# Altium schematic symbol library StandardCapacitors.SchLib: 18 symbols
Pins are listed as number, name and electrical type; pins without a type are passive.

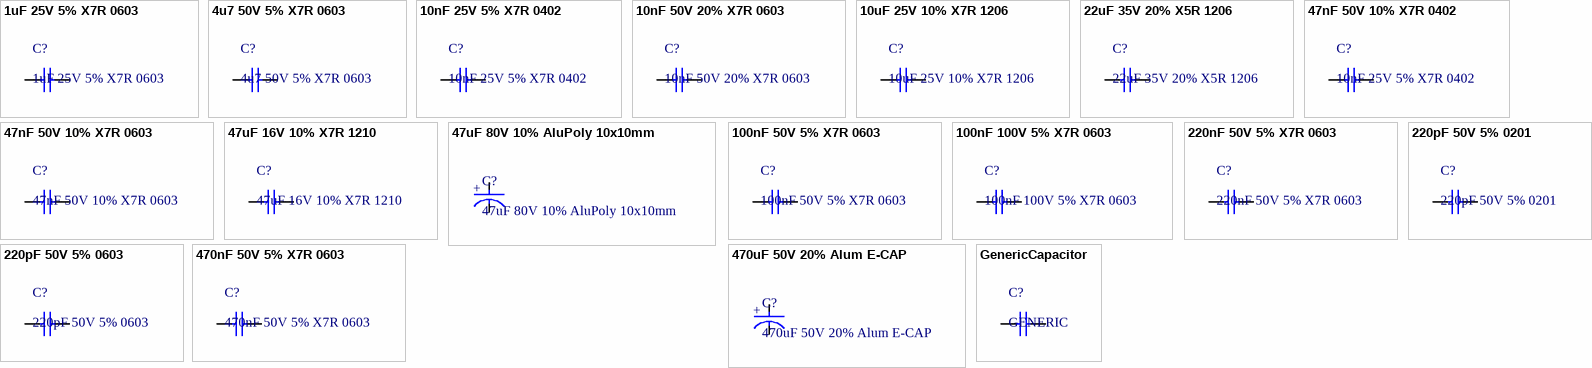
[diagram p0: symbols 1uF 25V 5% X7R 0603 to GenericCapacitor]

## 1uF 25V 5% X7R 0603
designator C?
Capacitor, Ceramic, SMD, 1uF, 25V, 5%, X7R, 0603
footprint Cap_Ceramic_0603
pins: 1, 2

## 4u7 50V 5% X7R 0603
designator C?
Capacitor, Ceramic, SMD, 4u7, 50V, 5%, X7R, 0603
footprint Cap_Ceramic_0603
pins: 1, 2

## 10nF 25V 5% X7R 0402
designator C?
10000pF ±5% 25V Ceramic Capacitor X7R 0402 (1005 Metric) /; ComponentLink1Description: Digikey; ComponentLink1URL: https://www.digikey.com/product-detail/en/murata-electronics/GRM155R71E103JA01J/490-6340-1-ND/3845537; ComponentLink2Description: Datasheet; ComponentLink2URL: https://search.murata.co.jp/Ceramy/image/img/A01X/G101/ENG/GRM155R71E103JA01-01.pdf
footprint CAP_CERAMIC_0402
pins: 1, 2

## 10nF 50V 20% X7R 0603
designator C?
10000pF ±20% 50V Ceramic Capacitor X7R 0603 (1608 Metric); ComponentLink1Description: Digikey; ComponentLink1URL: https://www.digikey.com.au/product-detail/en/kemet/C0603C103M5RACTU/399-7842-1-ND/3471565; ComponentLink2Description: Datasheet; ComponentLink2URL: https://content.kemet.com/datasheets/KEM_C1002_X7R_SMD.pdf
footprint Cap_Ceramic_0603
pins: 1, 2

## 10uF 25V 10% X7R 1206
designator C?
Capacitor, Ceramic, SMD, 10uF, 25V, 10%, X7R, 1206
footprint Cap_Ceramic_1206
pins: 1, 2

## 22uF 35V 20% X5R 1206
designator C?
22µF ±20% 35V Ceramic Capacitor X5R 1206 (3216 Metric); ComponentLink1Description: Digikey; ComponentLink1URL: https://www.digikey.com.au/product-detail/en/tdk-corporation/C3216X5R1V226M160AC/445-8045-1-ND/2792165; ComponentLink2Description: Datasheet; ComponentLink2URL: https://product.tdk.com/info/en/catalog/datasheets/mlcc_commercial_general_en.pdf
footprint Cap_Ceramic_1206
pins: 1, 2

## 47nF 50V 10% X7R 0402
designator C?, comment 10nF 25V 5% X7R 0402
0.047µF ±10% 50V Ceramic Capacitor X7R 0402 (1005 Metric); ComponentLink1Description: Digikey; ComponentLink1URL: https://www.digikey.com/product-detail/en/murata-electronics/GRM155R71H473KE14D/490-10702-1-ND/5251398; ComponentLink2Description: Datasheet; ComponentLink2URL: https://search.murata.co.jp/Ceramy/image/img/A01X/G101/ENG/GRM155R71H473KE14-01.pdf
footprint CAP_CERAMIC_0402
pins: 1, 2

## 47nF 50V 10% X7R 0603
designator C?
0.047µF ±10% 50V Ceramic Capacitor X7R 0603 (1608 Metric); ComponentLink1Description: Digikey; ComponentLink1URL: https://www.digikey.com.au/product-detail/en/kemet/C0603C473K5RACTU/399-7933-1-ND/3471656; ComponentLink2Description: Datasheet; ComponentLink2URL: https://content.kemet.com/datasheets/KEM_C1002_X7R_SMD.pdf
footprint Cap_Ceramic_0603
pins: 1, 2

## 47uF 16V 10% X7R 1210
designator C?
Capacitor, Ceramic, SMD, 47uF, 16V, 5%, X7R, 1210
footprint Cap_Ceramic_0603
pins: 1, 2

## 47uF 80V 10% AluPoly 10x10mm
designator C?
Capacitor, AluPoly, SMD, 47uF, 80V, 10%, AluPoly, 10x10mm
footprint CAP_ALU_10x10mm
pins: A, K
text: +

## 100nF 50V 5% X7R 0603
designator C?
Capacitor, Ceramic, SMD, 100nF, 50V, 5%, X7R, 0603
footprint Cap_Ceramic_0603
pins: 1, 2

## 100nF 100V 5% X7R 0603
designator C?
Capacitor, Ceramic, SMD, 100nF, 100V, 5%, X7R, 0603
footprint Cap_Ceramic_0603
pins: 1, 2

## 220nF 50V 5% X7R 0603
designator C?
Capacitor, Ceramic, SMD, 220nF, 50V, 5%, X7R, 0603
footprint Cap_Ceramic_0603
pins: 1, 2

## 220pF 50V 5% 0201
designator C?
220pF ±5% 50V Ceramic Capacitor C0G, NP0 0201 (0603 Metric); ComponentLink1Description: Digikey; ComponentLink1URL: https://www.digikey.com/product-detail/en/murata-electronics/GRM0335C1H221JA01D/490-11316-1-ND/5333156; ComponentLink2Description: Datasheet; ComponentLink2URL: https://search.murata.co.jp/Ceramy/image/img/A01X/G101/ENG/GRM0335C1H221JA01-01.pdf
footprint CAP_CERAMIC_0201
pins: 1, 2

## 220pF 50V 5% 0603
designator C?
220pF ±5% 50V Ceramic Capacitor C0G, NP0 0603 (1608 Metric); ComponentLink1Description: Digikey; ComponentLink1URL: https://www.digikey.com.au/product-detail/en/kemet/C0603C221J5GACTU/399-1066-1-ND/411341; ComponentLink2Description: Datasheet; ComponentLink2URL: https://content.kemet.com/datasheets/KEM_C1003_C0G_SMD.pdf
footprint Cap_Ceramic_0603
pins: 1, 2

## 470nF 50V 5% X7R 0603
designator C?
Capacitor, Ceramic, SMD, 470nF, 50V, 5%, X7R, 0603
footprint Cap_Ceramic_0603
pins: 1, 2

## 470uF 50V 20% Alum E-CAP
designator C?
470µF 50V Aluminum Electrolytic Capacitors Radial, Can  5000 Hrs @ 105°C
footprint CAP_ALU_TH
pins: A, K
text: +

## GenericCapacitor
designator C?, comment GENERIC
footprint Cap_Ceramic_0603
footprint Cap_Ceramic_0805
footprint Cap_Ceramic_1206
footprint Cap_Ceramic_1210
footprint Cap_Ceramic_1812
footprint Cap_Ceramic_1825
pins: 1, 2